# Altium footprint library CAP_25V_3300uF.PcbLib: 1 footprints
Each footprint in its own frame and in the unit in brackets; x right, y up, seen from the top. Pads: shape width x height; smd on the part's side, far side on the other; paste and mask are expansions set on the pad; w line width, h text height; cw(c..) or ccw(c..) is an arc to the next point about the centre after c.
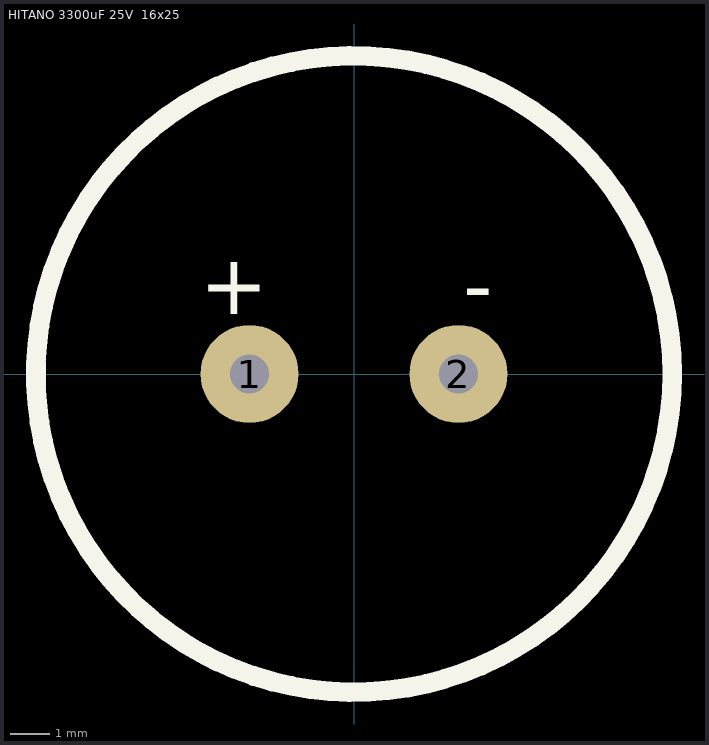
[diagram p0: the footprint, top view; thin cyan lines are the x and y axes]

## HITANO 3300uF 25V  16x25 [mm]
pads (2):
  round 2.5 hole 1: 1(-2.667,0) 2(2.667,0)
Top Overlay:
  circle w0.5: c0,0 r8.122
  text "+" at -3.937,1.524 h1.52
  text "-" at 2.794,1.524 h1.52
3D body "HITANO 3300uF 25V EHR105.STEP": height 25.87, standoff -4.03, extent -8.15,-8.143 8.16,8.16